# EAGLE library part K-RJ45 (library elpp-tht-v1.2)
RJ-45 connector, with LEDs
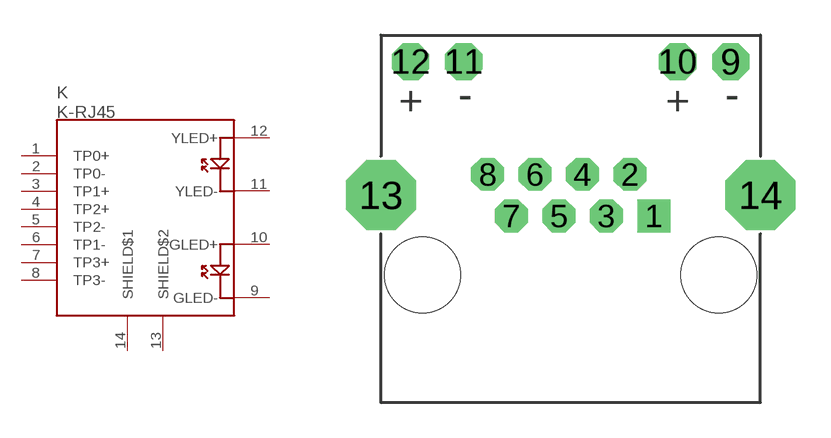
[diagram p1: symbol with the pads of ELPP-RJ45; footprint ELPP-RJ45]

Designator prefix K

## K-RJ45 (FARNELL: 1849916; RS: 7350298)  [ELPP-RJ45]
1  TP0+
2  TP0-
3  TP1+
4  TP2+
5  TP2-
6  TP1-
7  TP3+
8  TP3-
9  GLED-
10  GLED+
11  YLED-
12  YLED+
13  SHIELD$2
14  SHIELD$1

## Footprint ELPP-RJ45 (pad centres in mm)
drill 0.9 square: 1 3.556,2.54
drill 0.9 octagon: 2 2.54,4.318; 3 1.524,2.54; 4 0.508,4.318; 5 -0.508,2.54; 6 -1.524,4.318; 7 -2.54,2.54; 8 -3.556,4.318
drill 0.9 pad 1.6 octagon: 9 6.858,9.144; 10 4.572,9.144; 11 -4.572,9.144; 12 -6.858,9.144
drill 1.7 pad 3 octagon: 13 -8.128,3.429; 14 8.128,3.429
hole 3.25 at 6.35,0
hole 3.25 at -6.35,0